# Altium schematic symbol library BGS13SN8.SchLib: 1 symbol
Pins are listed as number, name and electrical type; pins without a type are passive.

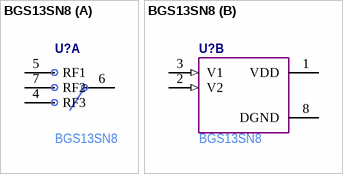
[diagram p0: symbol BGS13SN8]

## BGS13SN8
designator U?  Manufacturer Part Number: BGS13SN8  (hidden comment: *)
part A pins: 4 RF3, 5 RF1, 6 RFIN, 7 RF2
part B pins: 1 VDD (power), 2 V2 (in), 3 V1 (in), 8 DGND (power)